# Altium schematic symbol library CSD19538Q3AT.SchLib: 1 symbol
Pins are listed as number, name and electrical type; pins without a type are passive.

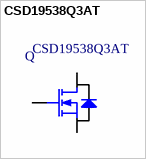
[diagram p0: symbol CSD19538Q3AT]

## CSD19538Q3AT
designator Q  value CSD19538Q3AT  (hidden comment: *)
Manufacturer: Texas Instruments; Manufacturer Code: CSD19538Q3AT; Unit Price: 0,857 €; Farnell Code: 2580523
footprint SON3X3 (Footprint not found)
pins: 1 S, 2 G, 3 D